# Altium integrated library Vishay Roederstein Electrolytic Axial-Lead Capacitor.IntLib: 155 symbols (part 3 of 3)
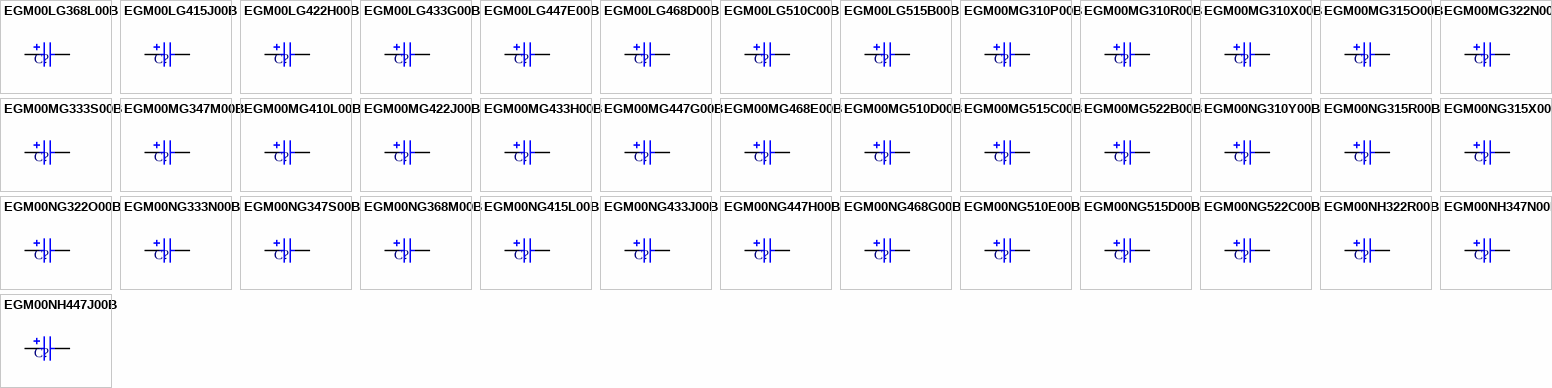
[diagram p5: symbols EGM00LG368L00B to EGM00NH447J00B]

## EGM00NH347N00B
designator C?
Aluminum Electrolytic Capacitor, Axial Miniature: 470uF, 250V; Note: Bulk Pack Part No. shown, refer to Manufacturer's Data Sheets for other package types; PCB_Layout: Complies with IPC-2221.; DrillSize: Nominal, Rounded To The Nearest 0.1mm; Published: 19-Mar-2004; DatasheetDocument: 8-Apr-2002; PackageReference: CAPPA52.1-47x25.5; Publisher: Altium Limited; ComponentLink1Description: Manufacturer Link; ComponentLink1URL: http://www.vishay.com/; ComponentLink2Description: Datasheet; ComponentLink2URL: http://www.vishay.com/docs/25140/elebegm.pdf; Value: 470uF
footprint CAPPA52.1-47x25.5 (Capacitor, Electrolytic, Axial; Body 47 x 25.5 mm (LxDia. max), Lead Dia. 0.8 mm (typ))
simulation model CAP (Capacitor)
signal-integrity model EGM00NH347N00B
pins: 1, 2
1 alternate drawing of the same symbol

## EGM00NH447J00B
designator C?
Aluminum Electrolytic Capacitor, Axial Miniature: 4700uF, 63V; Note: Bulk Pack Part No. shown, refer to Manufacturer's Data Sheets for other package types; PCB_Layout: Complies with IPC-2221.; DrillSize: Nominal, Rounded To The Nearest 0.1mm; Published: 19-Mar-2004; DatasheetDocument: 8-Apr-2002; PackageReference: CAPPA52.1-47x25.5; Publisher: Altium Limited; ComponentLink1Description: Manufacturer Link; ComponentLink1URL: http://www.vishay.com/; ComponentLink2Description: Datasheet; ComponentLink2URL: http://www.vishay.com/docs/25140/elebegm.pdf; Value: 4700uF
footprint CAPPA52.1-47x25.5 (Capacitor, Electrolytic, Axial; Body 47 x 25.5 mm (LxDia. max), Lead Dia. 0.8 mm (typ))
simulation model CAP (Capacitor)
signal-integrity model EGM00NH447J00B
pins: 1, 2
1 alternate drawing of the same symbol

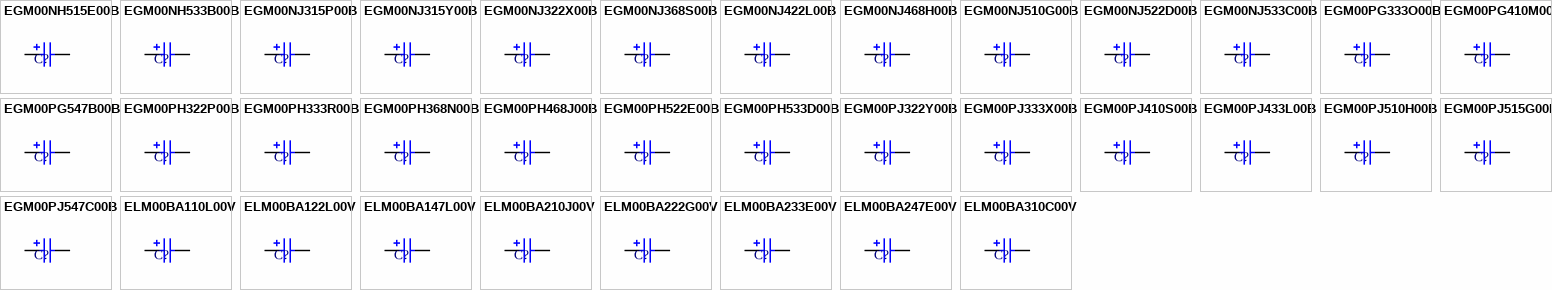
[diagram p3: symbols EGM00NH515E00B to ELM00BA310C00V]

## EGM00NH515E00B
designator C?
Aluminum Electrolytic Capacitor, Axial Miniature: 15000uF, 25V; Note: Bulk Pack Part No. shown, refer to Manufacturer's Data Sheets for other package types; PCB_Layout: Complies with IPC-2221.; DrillSize: Nominal, Rounded To The Nearest 0.1mm; Published: 19-Mar-2004; DatasheetDocument: 8-Apr-2002; PackageReference: CAPPA52.1-47x25.5; Publisher: Altium Limited; ComponentLink1Description: Manufacturer Link; ComponentLink1URL: http://www.vishay.com/; ComponentLink2Description: Datasheet; ComponentLink2URL: http://www.vishay.com/docs/25140/elebegm.pdf; Value: 15000uF
footprint CAPPA52.1-47x25.5 (Capacitor, Electrolytic, Axial; Body 47 x 25.5 mm (LxDia. max), Lead Dia. 0.8 mm (typ))
simulation model CAP (Capacitor)
signal-integrity model EGM00NH515E00B
pins: 1, 2
1 alternate drawing of the same symbol

## EGM00NH533B00B
designator C?
Aluminum Electrolytic Capacitor, Axial Miniature: 33000uF, 6.3V; Note: Bulk Pack Part No. shown, refer to Manufacturer's Data Sheets for other package types; PCB_Layout: Complies with IPC-2221.; DrillSize: Nominal, Rounded To The Nearest 0.1mm; Published: 19-Mar-2004; DatasheetDocument: 8-Apr-2002; PackageReference: CAPPA52.1-47x25.5; Publisher: Altium Limited; ComponentLink1Description: Manufacturer Link; ComponentLink1URL: http://www.vishay.com/; ComponentLink2Description: Datasheet; ComponentLink2URL: http://www.vishay.com/docs/25140/elebegm.pdf; Value: 33000uF
footprint CAPPA52.1-47x25.5 (Capacitor, Electrolytic, Axial; Body 47 x 25.5 mm (LxDia. max), Lead Dia. 0.8 mm (typ))
simulation model CAP (Capacitor)
signal-integrity model EGM00NH533B00B
pins: 1, 2
1 alternate drawing of the same symbol

## EGM00NJ315P00B
designator C?
Aluminum Electrolytic Capacitor, Axial Miniature: 150uF, 450V; Note: Bulk Pack Part No. shown, refer to Manufacturer's Data Sheets for other package types; PCB_Layout: Complies with IPC-2221.; DrillSize: Nominal, Rounded To The Nearest 0.1mm; Published: 19-Mar-2004; DatasheetDocument: 8-Apr-2002; PackageReference: CAPPA56.1-51x25.5; Publisher: Altium Limited; ComponentLink1Description: Manufacturer Link; ComponentLink1URL: http://www.vishay.com/; ComponentLink2Description: Datasheet; ComponentLink2URL: http://www.vishay.com/docs/25140/elebegm.pdf; Value: 150uF
footprint CAPPA56.1-51x25.5 (Capacitor, Electrolytic, Axial; Body 51 x 25.5 mm (LxDia. max), Lead Dia. 0.8 mm (typ))
simulation model CAP (Capacitor)
signal-integrity model EGM00NJ315P00B
pins: 1, 2
1 alternate drawing of the same symbol

## EGM00NJ315Y00B
designator C?
Aluminum Electrolytic Capacitor, Axial Miniature: 150uF, 500V; Note: Bulk Pack Part No. shown, refer to Manufacturer's Data Sheets for other package types; PCB_Layout: Complies with IPC-2221.; DrillSize: Nominal, Rounded To The Nearest 0.1mm; Published: 19-Mar-2004; DatasheetDocument: 8-Apr-2002; PackageReference: CAPPA56.1-51x25.5; Publisher: Altium Limited; ComponentLink1Description: Manufacturer Link; ComponentLink1URL: http://www.vishay.com/; ComponentLink2Description: Datasheet; ComponentLink2URL: http://www.vishay.com/docs/25140/elebegm.pdf; Value: 150uF
footprint CAPPA56.1-51x25.5 (Capacitor, Electrolytic, Axial; Body 51 x 25.5 mm (LxDia. max), Lead Dia. 0.8 mm (typ))
simulation model CAP (Capacitor)
signal-integrity model EGM00NJ315Y00B
pins: 1, 2
1 alternate drawing of the same symbol

## EGM00NJ322X00B
designator C?
Aluminum Electrolytic Capacitor, Axial Miniature: 220uF, 400V; Note: Bulk Pack Part No. shown, refer to Manufacturer's Data Sheets for other package types; PCB_Layout: Complies with IPC-2221.; DrillSize: Nominal, Rounded To The Nearest 0.1mm; Published: 19-Mar-2004; DatasheetDocument: 8-Apr-2002; PackageReference: CAPPA56.1-51x25.5; Publisher: Altium Limited; ComponentLink1Description: Manufacturer Link; ComponentLink1URL: http://www.vishay.com/; ComponentLink2Description: Datasheet; ComponentLink2URL: http://www.vishay.com/docs/25140/elebegm.pdf; Value: 220uF
footprint CAPPA56.1-51x25.5 (Capacitor, Electrolytic, Axial; Body 51 x 25.5 mm (LxDia. max), Lead Dia. 0.8 mm (typ))
simulation model CAP (Capacitor)
signal-integrity model EGM00NJ322X00B
pins: 1, 2
1 alternate drawing of the same symbol

## EGM00NJ368S00B
designator C?
Aluminum Electrolytic Capacitor, Axial Miniature: 680uF, 200V; Note: Bulk Pack Part No. shown, refer to Manufacturer's Data Sheets for other package types; PCB_Layout: Complies with IPC-2221.; DrillSize: Nominal, Rounded To The Nearest 0.1mm; Published: 19-Mar-2004; DatasheetDocument: 8-Apr-2002; PackageReference: CAPPA56.1-51x25.5; Publisher: Altium Limited; ComponentLink1Description: Manufacturer Link; ComponentLink1URL: http://www.vishay.com/; ComponentLink2Description: Datasheet; ComponentLink2URL: http://www.vishay.com/docs/25140/elebegm.pdf; Value: 680uF
footprint CAPPA56.1-51x25.5 (Capacitor, Electrolytic, Axial; Body 51 x 25.5 mm (LxDia. max), Lead Dia. 0.8 mm (typ))
simulation model CAP (Capacitor)
signal-integrity model EGM00NJ368S00B
pins: 1, 2
1 alternate drawing of the same symbol

## EGM00NJ422L00B
designator C?
Aluminum Electrolytic Capacitor, Axial Miniature: 2200uF, 100V; Note: Bulk Pack Part No. shown, refer to Manufacturer's Data Sheets for other package types; PCB_Layout: Complies with IPC-2221.; DrillSize: Nominal, Rounded To The Nearest 0.1mm; Published: 19-Mar-2004; DatasheetDocument: 8-Apr-2002; PackageReference: CAPPA56.1-51x25.5; Publisher: Altium Limited; ComponentLink1Description: Manufacturer Link; ComponentLink1URL: http://www.vishay.com/; ComponentLink2Description: Datasheet; ComponentLink2URL: http://www.vishay.com/docs/25140/elebegm.pdf; Value: 2200uF
footprint CAPPA56.1-51x25.5 (Capacitor, Electrolytic, Axial; Body 51 x 25.5 mm (LxDia. max), Lead Dia. 0.8 mm (typ))
simulation model CAP (Capacitor)
signal-integrity model EGM00NJ422L00B
pins: 1, 2
1 alternate drawing of the same symbol

## EGM00NJ468H00B
designator C?
Aluminum Electrolytic Capacitor, Axial Miniature: 6800uF, 50V; Note: Bulk Pack Part No. shown, refer to Manufacturer's Data Sheets for other package types; PCB_Layout: Complies with IPC-2221.; DrillSize: Nominal, Rounded To The Nearest 0.1mm; Published: 19-Mar-2004; DatasheetDocument: 8-Apr-2002; PackageReference: CAPPA56.1-51x25.5; Publisher: Altium Limited; ComponentLink1Description: Manufacturer Link; ComponentLink1URL: http://www.vishay.com/; ComponentLink2Description: Datasheet; ComponentLink2URL: http://www.vishay.com/docs/25140/elebegm.pdf; Value: 6800uF
footprint CAPPA56.1-51x25.5 (Capacitor, Electrolytic, Axial; Body 51 x 25.5 mm (LxDia. max), Lead Dia. 0.8 mm (typ))
simulation model CAP (Capacitor)
signal-integrity model EGM00NJ468H00B
pins: 1, 2
1 alternate drawing of the same symbol

## EGM00NJ510G00B
designator C?
Aluminum Electrolytic Capacitor, Axial Miniature: 10000uF, 40V; Note: Bulk Pack Part No. shown, refer to Manufacturer's Data Sheets for other package types; PCB_Layout: Complies with IPC-2221.; DrillSize: Nominal, Rounded To The Nearest 0.1mm; Published: 19-Mar-2004; DatasheetDocument: 8-Apr-2002; PackageReference: CAPPA56.1-51x25.5; Publisher: Altium Limited; ComponentLink1Description: Manufacturer Link; ComponentLink1URL: http://www.vishay.com/; ComponentLink2Description: Datasheet; ComponentLink2URL: http://www.vishay.com/docs/25140/elebegm.pdf; Value: 10000uF
footprint CAPPA56.1-51x25.5 (Capacitor, Electrolytic, Axial; Body 51 x 25.5 mm (LxDia. max), Lead Dia. 0.8 mm (typ))
simulation model CAP (Capacitor)
signal-integrity model EGM00NJ510G00B
pins: 1, 2
1 alternate drawing of the same symbol

## EGM00NJ522D00B
designator C?
Aluminum Electrolytic Capacitor, Axial Miniature: 22000uF, 16V; Note: Bulk Pack Part No. shown, refer to Manufacturer's Data Sheets for other package types; PCB_Layout: Complies with IPC-2221.; DrillSize: Nominal, Rounded To The Nearest 0.1mm; Published: 19-Mar-2004; DatasheetDocument: 8-Apr-2002; PackageReference: CAPPA56.1-51x25.5; Publisher: Altium Limited; ComponentLink1Description: Manufacturer Link; ComponentLink1URL: http://www.vishay.com/; ComponentLink2Description: Datasheet; ComponentLink2URL: http://www.vishay.com/docs/25140/elebegm.pdf; Value: 22000uF
footprint CAPPA56.1-51x25.5 (Capacitor, Electrolytic, Axial; Body 51 x 25.5 mm (LxDia. max), Lead Dia. 0.8 mm (typ))
simulation model CAP (Capacitor)
signal-integrity model EGM00NJ522D00B
pins: 1, 2
1 alternate drawing of the same symbol

## EGM00NJ533C00B
designator C?
Aluminum Electrolytic Capacitor, Axial Miniature: 33000uF, 10V; Note: Bulk Pack Part No. shown, refer to Manufacturer's Data Sheets for other package types; PCB_Layout: Complies with IPC-2221.; DrillSize: Nominal, Rounded To The Nearest 0.1mm; Published: 19-Mar-2004; DatasheetDocument: 8-Apr-2002; PackageReference: CAPPA56.1-51x25.5; Publisher: Altium Limited; ComponentLink1Description: Manufacturer Link; ComponentLink1URL: http://www.vishay.com/; ComponentLink2Description: Datasheet; ComponentLink2URL: http://www.vishay.com/docs/25140/elebegm.pdf; Value: 33000uF
footprint CAPPA56.1-51x25.5 (Capacitor, Electrolytic, Axial; Body 51 x 25.5 mm (LxDia. max), Lead Dia. 0.8 mm (typ))
simulation model CAP (Capacitor)
signal-integrity model EGM00NJ533C00B
pins: 1, 2
1 alternate drawing of the same symbol

## EGM00PG333O00B
designator C?
Aluminum Electrolytic Capacitor, Axial Miniature: 330uF, 350V; Note: Bulk Pack Part No. shown, refer to Manufacturer's Data Sheets for other package types; PCB_Layout: Complies with IPC-2221.; DrillSize: Nominal, Rounded To The Nearest 0.1mm; Published: 19-Mar-2004; DatasheetDocument: 8-Apr-2002; PackageReference: CAPPA47.3-41x30.5; Publisher: Altium Limited; ComponentLink1Description: Manufacturer Link; ComponentLink1URL: http://www.vishay.com/; ComponentLink2Description: Datasheet; ComponentLink2URL: http://www.vishay.com/docs/25140/elebegm.pdf; Value: 330uF
footprint CAPPA47.3-41x30.5 (Capacitor, Electrolytic, Axial; Body 41 x 30.5 mm (LxDia. max), Lead Dia. 1 mm (typ))
simulation model CAP (Capacitor)
signal-integrity model EGM00PG333O00B
pins: 1, 2
1 alternate drawing of the same symbol

## EGM00PG410M00B
designator C?
Aluminum Electrolytic Capacitor, Axial Miniature: 1000uF, 160V; Note: Bulk Pack Part No. shown, refer to Manufacturer's Data Sheets for other package types; PCB_Layout: Complies with IPC-2221.; DrillSize: Nominal, Rounded To The Nearest 0.1mm; Published: 19-Mar-2004; DatasheetDocument: 8-Apr-2002; PackageReference: CAPPA47.3-41x30.5; Publisher: Altium Limited; ComponentLink1Description: Manufacturer Link; ComponentLink1URL: http://www.vishay.com/; ComponentLink2Description: Datasheet; ComponentLink2URL: http://www.vishay.com/docs/25140/elebegm.pdf; Value: 1000uF
footprint CAPPA47.3-41x30.5 (Capacitor, Electrolytic, Axial; Body 41 x 30.5 mm (LxDia. max), Lead Dia. 1 mm (typ))
simulation model CAP (Capacitor)
signal-integrity model EGM00PG410M00B
pins: 1, 2
1 alternate drawing of the same symbol

## EGM00PG547B00B
designator C?
Aluminum Electrolytic Capacitor, Axial Miniature: 47000uF, 6.3V; Note: Bulk Pack Part No. shown, refer to Manufacturer's Data Sheets for other package types; PCB_Layout: Complies with IPC-2221.; DrillSize: Nominal, Rounded To The Nearest 0.1mm; Published: 19-Mar-2004; DatasheetDocument: 8-Apr-2002; PackageReference: CAPPA47.3-41x30.5; Publisher: Altium Limited; ComponentLink1Description: Manufacturer Link; ComponentLink1URL: http://www.vishay.com/; ComponentLink2Description: Datasheet; ComponentLink2URL: http://www.vishay.com/docs/25140/elebegm.pdf; Value: 47000uF
footprint CAPPA47.3-41x30.5 (Capacitor, Electrolytic, Axial; Body 41 x 30.5 mm (LxDia. max), Lead Dia. 1 mm (typ))
simulation model CAP (Capacitor)
signal-integrity model EGM00PG547B00B
pins: 1, 2
1 alternate drawing of the same symbol

## EGM00PH322P00B
designator C?
Aluminum Electrolytic Capacitor, Axial Miniature: 220uF, 450V; Note: Bulk Pack Part No. shown, refer to Manufacturer's Data Sheets for other package types; PCB_Layout: Complies with IPC-2221.; DrillSize: Nominal, Rounded To The Nearest 0.1mm; Published: 19-Mar-2004; DatasheetDocument: 8-Apr-2002; PackageReference: CAPPA53.3-47x30.5; Publisher: Altium Limited; ComponentLink1Description: Manufacturer Link; ComponentLink1URL: http://www.vishay.com/; ComponentLink2Description: Datasheet; ComponentLink2URL: http://www.vishay.com/docs/25140/elebegm.pdf; Value: 220uF
footprint CAPPA53.3-47x30.5 (Capacitor, Electrolytic, Axial; Body 47 x 30.5 mm (LxDia. max), Lead Dia. 1 mm (typ))
simulation model CAP (Capacitor)
signal-integrity model EGM00PH322P00B
pins: 1, 2
1 alternate drawing of the same symbol

## EGM00PH333R00B
designator C?
Aluminum Electrolytic Capacitor, Axial Miniature: 330uF, 385V; Note: Bulk Pack Part No. shown, refer to Manufacturer's Data Sheets for other package types; PCB_Layout: Complies with IPC-2221.; DrillSize: Nominal, Rounded To The Nearest 0.1mm; Published: 19-Mar-2004; DatasheetDocument: 8-Apr-2002; PackageReference: CAPPA53.3-47x30.5; Publisher: Altium Limited; ComponentLink1Description: Manufacturer Link; ComponentLink1URL: http://www.vishay.com/; ComponentLink2Description: Datasheet; ComponentLink2URL: http://www.vishay.com/docs/25140/elebegm.pdf; Value: 330uF
footprint CAPPA53.3-47x30.5 (Capacitor, Electrolytic, Axial; Body 47 x 30.5 mm (LxDia. max), Lead Dia. 1 mm (typ))
simulation model CAP (Capacitor)
signal-integrity model EGM00PH333R00B
pins: 1, 2
1 alternate drawing of the same symbol

## EGM00PH368N00B
designator C?
Aluminum Electrolytic Capacitor, Axial Miniature: 680uF, 250V; Note: Bulk Pack Part No. shown, refer to Manufacturer's Data Sheets for other package types; PCB_Layout: Complies with IPC-2221.; DrillSize: Nominal, Rounded To The Nearest 0.1mm; Published: 19-Mar-2004; DatasheetDocument: 8-Apr-2002; PackageReference: CAPPA53.3-47x30.5; Publisher: Altium Limited; ComponentLink1Description: Manufacturer Link; ComponentLink1URL: http://www.vishay.com/; ComponentLink2Description: Datasheet; ComponentLink2URL: http://www.vishay.com/docs/25140/elebegm.pdf; Value: 680uF
footprint CAPPA53.3-47x30.5 (Capacitor, Electrolytic, Axial; Body 47 x 30.5 mm (LxDia. max), Lead Dia. 1 mm (typ))
simulation model CAP (Capacitor)
signal-integrity model EGM00PH368N00B
pins: 1, 2
1 alternate drawing of the same symbol

## EGM00PH468J00B
designator C?
Aluminum Electrolytic Capacitor, Axial Miniature: 6800uF, 63V; Note: Bulk Pack Part No. shown, refer to Manufacturer's Data Sheets for other package types; PCB_Layout: Complies with IPC-2221.; DrillSize: Nominal, Rounded To The Nearest 0.1mm; Published: 19-Mar-2004; DatasheetDocument: 8-Apr-2002; PackageReference: CAPPA53.3-47x30.5; Publisher: Altium Limited; ComponentLink1Description: Manufacturer Link; ComponentLink1URL: http://www.vishay.com/; ComponentLink2Description: Datasheet; ComponentLink2URL: http://www.vishay.com/docs/25140/elebegm.pdf; Value: 6800uF
footprint CAPPA53.3-47x30.5 (Capacitor, Electrolytic, Axial; Body 47 x 30.5 mm (LxDia. max), Lead Dia. 1 mm (typ))
simulation model CAP (Capacitor)
signal-integrity model EGM00PH468J00B
pins: 1, 2
1 alternate drawing of the same symbol

## EGM00PH522E00B
designator C?
Aluminum Electrolytic Capacitor, Axial Miniature: 22000uF, 25V; Note: Bulk Pack Part No. shown, refer to Manufacturer's Data Sheets for other package types; PCB_Layout: Complies with IPC-2221.; DrillSize: Nominal, Rounded To The Nearest 0.1mm; Published: 19-Mar-2004; DatasheetDocument: 8-Apr-2002; PackageReference: CAPPA53.3-47x30.5; Publisher: Altium Limited; ComponentLink1Description: Manufacturer Link; ComponentLink1URL: http://www.vishay.com/; ComponentLink2Description: Datasheet; ComponentLink2URL: http://www.vishay.com/docs/25140/elebegm.pdf; Value: 22000uF
footprint CAPPA53.3-47x30.5 (Capacitor, Electrolytic, Axial; Body 47 x 30.5 mm (LxDia. max), Lead Dia. 1 mm (typ))
simulation model CAP (Capacitor)
signal-integrity model EGM00PH522E00B
pins: 1, 2
1 alternate drawing of the same symbol

## EGM00PH533D00B
designator C?
Aluminum Electrolytic Capacitor, Axial Miniature: 33000uF, 16V; Note: Bulk Pack Part No. shown, refer to Manufacturer's Data Sheets for other package types; PCB_Layout: Complies with IPC-2221.; DrillSize: Nominal, Rounded To The Nearest 0.1mm; Published: 19-Mar-2004; DatasheetDocument: 8-Apr-2002; PackageReference: CAPPA53.3-47x30.5; Publisher: Altium Limited; ComponentLink1Description: Manufacturer Link; ComponentLink1URL: http://www.vishay.com/; ComponentLink2Description: Datasheet; ComponentLink2URL: http://www.vishay.com/docs/25140/elebegm.pdf; Value: 33000uF
footprint CAPPA53.3-47x30.5 (Capacitor, Electrolytic, Axial; Body 47 x 30.5 mm (LxDia. max), Lead Dia. 1 mm (typ))
simulation model CAP (Capacitor)
signal-integrity model EGM00PH533D00B
pins: 1, 2
1 alternate drawing of the same symbol

## EGM00PJ322Y00B
designator C?
Aluminum Electrolytic Capacitor, Axial Miniature: 220uF, 500V; Note: Bulk Pack Part No. shown, refer to Manufacturer's Data Sheets for other package types; PCB_Layout: Complies with IPC-2221.; DrillSize: Nominal, Rounded To The Nearest 0.1mm; Published: 19-Mar-2004; DatasheetDocument: 8-Apr-2002; PackageReference: CAPPA57.3-51x30.5; Publisher: Altium Limited; ComponentLink1Description: Manufacturer Link; ComponentLink1URL: http://www.vishay.com/; ComponentLink2Description: Datasheet; ComponentLink2URL: http://www.vishay.com/docs/25140/elebegm.pdf; Value: 220uF
footprint CAPPA57.3-51x30.5 (Capacitor, Electrolytic, Axial; Body 51 x 30.5 mm (LxDia. max), Lead Dia. 1 mm (typ))
simulation model CAP (Capacitor)
signal-integrity model EGM00PJ322Y00B
pins: 1, 2
1 alternate drawing of the same symbol

## EGM00PJ333X00B
designator C?
Aluminum Electrolytic Capacitor, Axial Miniature: 330uF, 400V; Note: Bulk Pack Part No. shown, refer to Manufacturer's Data Sheets for other package types; PCB_Layout: Complies with IPC-2221.; DrillSize: Nominal, Rounded To The Nearest 0.1mm; Published: 19-Mar-2004; DatasheetDocument: 8-Apr-2002; PackageReference: CAPPA57.3-51x30.5; Publisher: Altium Limited; ComponentLink1Description: Manufacturer Link; ComponentLink1URL: http://www.vishay.com/; ComponentLink2Description: Datasheet; ComponentLink2URL: http://www.vishay.com/docs/25140/elebegm.pdf; Value: 330uF
footprint CAPPA57.3-51x30.5 (Capacitor, Electrolytic, Axial; Body 51 x 30.5 mm (LxDia. max), Lead Dia. 1 mm (typ))
simulation model CAP (Capacitor)
signal-integrity model EGM00PJ333X00B
pins: 1, 2
1 alternate drawing of the same symbol

## EGM00PJ410S00B
designator C?
Aluminum Electrolytic Capacitor, Axial Miniature: 1000uF, 200V; Note: Bulk Pack Part No. shown, refer to Manufacturer's Data Sheets for other package types; PCB_Layout: Complies with IPC-2221.; DrillSize: Nominal, Rounded To The Nearest 0.1mm; Published: 19-Mar-2004; DatasheetDocument: 8-Apr-2002; PackageReference: CAPPA57.3-51x30.5; Publisher: Altium Limited; ComponentLink1Description: Manufacturer Link; ComponentLink1URL: http://www.vishay.com/; ComponentLink2Description: Datasheet; ComponentLink2URL: http://www.vishay.com/docs/25140/elebegm.pdf; Value: 1000uF
footprint CAPPA57.3-51x30.5 (Capacitor, Electrolytic, Axial; Body 51 x 30.5 mm (LxDia. max), Lead Dia. 1 mm (typ))
simulation model CAP (Capacitor)
signal-integrity model EGM00PJ410S00B
pins: 1, 2
1 alternate drawing of the same symbol

## EGM00PJ433L00B
designator C?
Aluminum Electrolytic Capacitor, Axial Miniature: 3300uF, 100V; Note: Bulk Pack Part No. shown, refer to Manufacturer's Data Sheets for other package types; PCB_Layout: Complies with IPC-2221.; DrillSize: Nominal, Rounded To The Nearest 0.1mm; Published: 19-Mar-2004; DatasheetDocument: 8-Apr-2002; PackageReference: CAPPA57.3-51x30.5; Publisher: Altium Limited; ComponentLink1Description: Manufacturer Link; ComponentLink1URL: http://www.vishay.com/; ComponentLink2Description: Datasheet; ComponentLink2URL: http://www.vishay.com/docs/25140/elebegm.pdf; Value: 3300uF
footprint CAPPA57.3-51x30.5 (Capacitor, Electrolytic, Axial; Body 51 x 30.5 mm (LxDia. max), Lead Dia. 1 mm (typ))
simulation model CAP (Capacitor)
signal-integrity model EGM00PJ433L00B
pins: 1, 2
1 alternate drawing of the same symbol

## EGM00PJ510H00B
designator C?
Aluminum Electrolytic Capacitor, Axial Miniature: 10000uF, 50V; Note: Bulk Pack Part No. shown, refer to Manufacturer's Data Sheets for other package types; PCB_Layout: Complies with IPC-2221.; DrillSize: Nominal, Rounded To The Nearest 0.1mm; Published: 19-Mar-2004; DatasheetDocument: 8-Apr-2002; PackageReference: CAPPA57.3-51x30.5; Publisher: Altium Limited; ComponentLink1Description: Manufacturer Link; ComponentLink1URL: http://www.vishay.com/; ComponentLink2Description: Datasheet; ComponentLink2URL: http://www.vishay.com/docs/25140/elebegm.pdf; Value: 10000uF
footprint CAPPA57.3-51x30.5 (Capacitor, Electrolytic, Axial; Body 51 x 30.5 mm (LxDia. max), Lead Dia. 1 mm (typ))
simulation model CAP (Capacitor)
signal-integrity model EGM00PJ510H00B
pins: 1, 2
1 alternate drawing of the same symbol

## EGM00PJ515G00B
designator C?
Aluminum Electrolytic Capacitor, Axial Miniature: 15000uF, 40V; Note: Bulk Pack Part No. shown, refer to Manufacturer's Data Sheets for other package types; PCB_Layout: Complies with IPC-2221.; DrillSize: Nominal, Rounded To The Nearest 0.1mm; Published: 19-Mar-2004; DatasheetDocument: 8-Apr-2002; PackageReference: CAPPA57.3-51x30.5; Publisher: Altium Limited; ComponentLink1Description: Manufacturer Link; ComponentLink1URL: http://www.vishay.com/; ComponentLink2Description: Datasheet; ComponentLink2URL: http://www.vishay.com/docs/25140/elebegm.pdf; Value: 15000uF
footprint CAPPA57.3-51x30.5 (Capacitor, Electrolytic, Axial; Body 51 x 30.5 mm (LxDia. max), Lead Dia. 1 mm (typ))
simulation model CAP (Capacitor)
signal-integrity model EGM00PJ515G00B
pins: 1, 2
1 alternate drawing of the same symbol

## EGM00PJ547C00B
designator C?
Aluminum Electrolytic Capacitor, Axial Miniature: 47000uF, 10V; Note: Bulk Pack Part No. shown, refer to Manufacturer's Data Sheets for other package types; PCB_Layout: Complies with IPC-2221.; DrillSize: Nominal, Rounded To The Nearest 0.1mm; Published: 19-Mar-2004; DatasheetDocument: 8-Apr-2002; PackageReference: CAPPA57.3-51x30.5; Publisher: Altium Limited; ComponentLink1Description: Manufacturer Link; ComponentLink1URL: http://www.vishay.com/; ComponentLink2Description: Datasheet; ComponentLink2URL: http://www.vishay.com/docs/25140/elebegm.pdf; Value: 47000uF
footprint CAPPA57.3-51x30.5 (Capacitor, Electrolytic, Axial; Body 51 x 30.5 mm (LxDia. max), Lead Dia. 1 mm (typ))
simulation model CAP (Capacitor)
signal-integrity model EGM00PJ547C00B
pins: 1, 2
1 alternate drawing of the same symbol

## ELM00BA110L00V
designator C?
Aluminum Electrolytic Capacitor, Axial Miniature: 1uF, 100V; Note: Bulk Pack Part No. shown, refer to Manufacturer's Data Sheets for other package types; PCB_Layout: Complies with IPC-2221.; DrillSize: Nominal, Rounded To The Nearest 0.1mm; Published: 19-Mar-2004; DatasheetDocument: 8-Apr-2002; PackageReference: CAPPA15.05-11.5x5; Publisher: Altium Limited; ComponentLink1Description: Manufacturer Link; ComponentLink1URL: http://www.vishay.com/; ComponentLink2Description: Datasheet; ComponentLink2URL: http://www.vishay.com/docs/25140/elebegm.pdf; Value: 1uF
footprint CAPPA15.05-11.5x5 (Capacitor, Electrolytic, Axial; Body 11.5 x 5 mm (LxDia. max), Lead Dia. 0.6 mm (typ))
simulation model CAP (Capacitor)
signal-integrity model ELM00BA110L00V
pins: 1, 2
1 alternate drawing of the same symbol

## ELM00BA122L00V
designator C?
Aluminum Electrolytic Capacitor, Axial Miniature: 2.2uF, 100V; Note: Bulk Pack Part No. shown, refer to Manufacturer's Data Sheets for other package types; PCB_Layout: Complies with IPC-2221.; DrillSize: Nominal, Rounded To The Nearest 0.1mm; Published: 19-Mar-2004; DatasheetDocument: 8-Apr-2002; PackageReference: CAPPA15.05-11.5x5; Publisher: Altium Limited; ComponentLink1Description: Manufacturer Link; ComponentLink1URL: http://www.vishay.com/; ComponentLink2Description: Datasheet; ComponentLink2URL: http://www.vishay.com/docs/25140/elebegm.pdf; Value: 2.2uF
footprint CAPPA15.05-11.5x5 (Capacitor, Electrolytic, Axial; Body 11.5 x 5 mm (LxDia. max), Lead Dia. 0.6 mm (typ))
simulation model CAP (Capacitor)
signal-integrity model ELM00BA122L00V
pins: 1, 2
1 alternate drawing of the same symbol

## ELM00BA147L00V
designator C?
Aluminum Electrolytic Capacitor, Axial Miniature: 4.7uF, 100V; Note: Bulk Pack Part No. shown, refer to Manufacturer's Data Sheets for other package types; PCB_Layout: Complies with IPC-2221.; DrillSize: Nominal, Rounded To The Nearest 0.1mm; Published: 19-Mar-2004; DatasheetDocument: 8-Apr-2002; PackageReference: CAPPA15.05-11.5x5; Publisher: Altium Limited; ComponentLink1Description: Manufacturer Link; ComponentLink1URL: http://www.vishay.com/; ComponentLink2Description: Datasheet; ComponentLink2URL: http://www.vishay.com/docs/25140/elebegm.pdf; Value: 4.7uF
footprint CAPPA15.05-11.5x5 (Capacitor, Electrolytic, Axial; Body 11.5 x 5 mm (LxDia. max), Lead Dia. 0.6 mm (typ))
simulation model CAP (Capacitor)
signal-integrity model ELM00BA147L00V
pins: 1, 2
1 alternate drawing of the same symbol

## ELM00BA210J00V
designator C?
Aluminum Electrolytic Capacitor, Axial Miniature: 10uF, 63V; Note: Bulk Pack Part No. shown, refer to Manufacturer's Data Sheets for other package types; PCB_Layout: Complies with IPC-2221.; DrillSize: Nominal, Rounded To The Nearest 0.1mm; Published: 19-Mar-2004; DatasheetDocument: 8-Apr-2002; PackageReference: CAPPA15.05-11.5x5; Publisher: Altium Limited; ComponentLink1Description: Manufacturer Link; ComponentLink1URL: http://www.vishay.com/; ComponentLink2Description: Datasheet; ComponentLink2URL: http://www.vishay.com/docs/25140/elebegm.pdf; Value: 10uF
footprint CAPPA15.05-11.5x5 (Capacitor, Electrolytic, Axial; Body 11.5 x 5 mm (LxDia. max), Lead Dia. 0.6 mm (typ))
simulation model CAP (Capacitor)
signal-integrity model ELM00BA210J00V
pins: 1, 2
1 alternate drawing of the same symbol

## ELM00BA222G00V
designator C?
Aluminum Electrolytic Capacitor, Axial Miniature: 22uF, 40V; Note: Bulk Pack Part No. shown, refer to Manufacturer's Data Sheets for other package types; PCB_Layout: Complies with IPC-2221.; DrillSize: Nominal, Rounded To The Nearest 0.1mm; Published: 19-Mar-2004; DatasheetDocument: 8-Apr-2002; PackageReference: CAPPA15.05-11.5x5; Publisher: Altium Limited; ComponentLink1Description: Manufacturer Link; ComponentLink1URL: http://www.vishay.com/; ComponentLink2Description: Datasheet; ComponentLink2URL: http://www.vishay.com/docs/25140/elebegm.pdf; Value: 22uF
footprint CAPPA15.05-11.5x5 (Capacitor, Electrolytic, Axial; Body 11.5 x 5 mm (LxDia. max), Lead Dia. 0.6 mm (typ))
simulation model CAP (Capacitor)
signal-integrity model ELM00BA222G00V
pins: 1, 2
1 alternate drawing of the same symbol

## ELM00BA233E00V
designator C?
Aluminum Electrolytic Capacitor, Axial Miniature: 33uF, 25V; Note: Bulk Pack Part No. shown, refer to Manufacturer's Data Sheets for other package types; PCB_Layout: Complies with IPC-2221.; DrillSize: Nominal, Rounded To The Nearest 0.1mm; Published: 19-Mar-2004; DatasheetDocument: 8-Apr-2002; PackageReference: CAPPA15.05-11.5x5; Publisher: Altium Limited; ComponentLink1Description: Manufacturer Link; ComponentLink1URL: http://www.vishay.com/; ComponentLink2Description: Datasheet; ComponentLink2URL: http://www.vishay.com/docs/25140/elebegm.pdf; Value: 33uF
footprint CAPPA15.05-11.5x5 (Capacitor, Electrolytic, Axial; Body 11.5 x 5 mm (LxDia. max), Lead Dia. 0.6 mm (typ))
simulation model CAP (Capacitor)
signal-integrity model ELM00BA233E00V
pins: 1, 2
1 alternate drawing of the same symbol

## ELM00BA247E00V
designator C?
Aluminum Electrolytic Capacitor, Axial Miniature: 47uF, 25V; Note: Bulk Pack Part No. shown, refer to Manufacturer's Data Sheets for other package types; PCB_Layout: Complies with IPC-2221.; DrillSize: Nominal, Rounded To The Nearest 0.1mm; Published: 19-Mar-2004; DatasheetDocument: 8-Apr-2002; PackageReference: CAPPA15.05-11.5x5; Publisher: Altium Limited; ComponentLink1Description: Manufacturer Link; ComponentLink1URL: http://www.vishay.com/; ComponentLink2Description: Datasheet; ComponentLink2URL: http://www.vishay.com/docs/25140/elebegm.pdf; Value: 47uF
footprint CAPPA15.05-11.5x5 (Capacitor, Electrolytic, Axial; Body 11.5 x 5 mm (LxDia. max), Lead Dia. 0.6 mm (typ))
simulation model CAP (Capacitor)
signal-integrity model ELM00BA247E00V
pins: 1, 2
1 alternate drawing of the same symbol

## ELM00BA310C00V
designator C?
Aluminum Electrolytic Capacitor, Axial Miniature: 100uF, 10V; Note: Bulk Pack Part No. shown, refer to Manufacturer's Data Sheets for other package types; PCB_Layout: Complies with IPC-2221.; DrillSize: Nominal, Rounded To The Nearest 0.1mm; Published: 19-Mar-2004; DatasheetDocument: 8-Apr-2002; PackageReference: CAPPA15.05-11.5x5; Publisher: Altium Limited; ComponentLink1Description: Manufacturer Link; ComponentLink1URL: http://www.vishay.com/; ComponentLink2Description: Datasheet; ComponentLink2URL: http://www.vishay.com/docs/25140/elebegm.pdf; Value: 100uF
footprint CAPPA15.05-11.5x5 (Capacitor, Electrolytic, Axial; Body 11.5 x 5 mm (LxDia. max), Lead Dia. 0.6 mm (typ))
simulation model CAP (Capacitor)
signal-integrity model ELM00BA310C00V
pins: 1, 2
1 alternate drawing of the same symbol